# Altium footprint library altera-cyclone-II.PCBLIB: 7 footprints (part 1 of 2)
Each footprint in its own frame and in the unit in brackets; x right, y up, seen from the top. Pads: shape width x height; smd on the part's side, far side on the other; paste and mask are expansions set on the pad; w line width, h text height; cw(c..) or ccw(c..) is an arc to the next point about the centre after c.
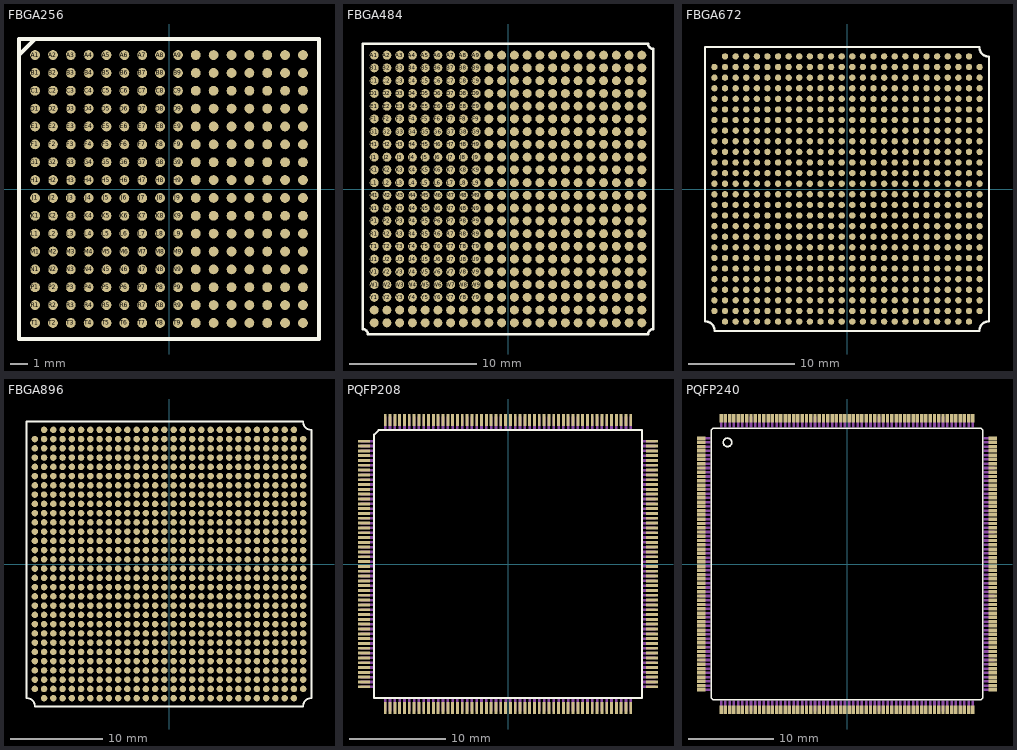
[diagram p0: the footprints below, top view; thin cyan lines are the x and y axes]

## FBGA256 [mm]
pads (256):
  rrect100% 0.55x0.55 smd: A1(-7.5,7.5) A2(-6.5,7.5) A3(-5.5,7.5) A4(-4.5,7.5) A5(-3.5,7.5) A6(-2.5,7.5) A7(-1.5,7.5) A8(-0.5,7.5) A9(0.5,7.5) A10(1.5,7.5) A11(2.5,7.5) A12(3.5,7.5) A13(4.5,7.5) A14(5.5,7.5) A15(6.5,7.5) A16(7.5,7.5) B1(-7.5,6.5) B2(-6.5,6.5) B3(-5.5,6.5) B4(-4.5,6.5) B5(-3.5,6.5) B6(-2.5,6.5) B7(-1.5,6.5) B8(-0.5,6.5) B9(0.5,6.5) B10(1.5,6.5) B11(2.5,6.5) B12(3.5,6.5) B13(4.5,6.5) B14(5.5,6.5) B15(6.5,6.5) B16(7.5,6.5) C1(-7.5,5.5) C2(-6.5,5.5) C3(-5.5,5.5) C4(-4.5,5.5) C5(-3.5,5.5) C6(-2.5,5.5) C7(-1.5,5.5) C8(-0.5,5.5) C9(0.5,5.5) C10(1.5,5.5) C11(2.5,5.5) C12(3.5,5.5) C13(4.5,5.5) C14(5.5,5.5) C15(6.5,5.5) C16(7.5,5.5) D1(-7.5,4.5) D2(-6.5,4.5) D3(-5.5,4.5) D4(-4.5,4.5) D5(-3.5,4.5) D6(-2.5,4.5) D7(-1.5,4.5) D8(-0.5,4.5) D9(0.5,4.5) D10(1.5,4.5) D11(2.5,4.5) D12(3.5,4.5) D13(4.5,4.5) D14(5.5,4.5) D15(6.5,4.5) D16(7.5,4.5) E1(-7.5,3.5) E2(-6.5,3.5) E3(-5.5,3.5) E4(-4.5,3.5) E5(-3.5,3.5) E6(-2.5,3.5) E7(-1.5,3.5) E8(-0.5,3.5) E9(0.5,3.5) E10(1.5,3.5) E11(2.5,3.5) E12(3.5,3.5) E13(4.5,3.5) E14(5.5,3.5) E15(6.5,3.5) E16(7.5,3.5) F1(-7.5,2.5) F2(-6.5,2.5) F3(-5.5,2.5) F4(-4.5,2.5) F5(-3.5,2.5) F6(-2.5,2.5) F7(-1.5,2.5) F8(-0.5,2.5) F9(0.5,2.5) F10(1.5,2.5) F11(2.5,2.5) F12(3.5,2.5) F13(4.5,2.5) F14(5.5,2.5) F15(6.5,2.5) F16(7.5,2.5) G1(-7.5,1.5) G2(-6.5,1.5) G3(-5.5,1.5) G4(-4.5,1.5) G5(-3.5,1.5) G6(-2.5,1.5) G7(-1.5,1.5) G8(-0.5,1.5) G9(0.5,1.5) G10(1.5,1.5) G11(2.5,1.5) G12(3.5,1.5) G13(4.5,1.5) G14(5.5,1.5) G15(6.5,1.5) G16(7.5,1.5) H1(-7.5,0.5) H2(-6.5,0.5) H3(-5.5,0.5) H4(-4.5,0.5) H5(-3.5,0.5) H6(-2.5,0.5) H7(-1.5,0.5) H8(-0.5,0.5) H9(0.5,0.5) H10(1.5,0.5) H11(2.5,0.5) H12(3.5,0.5) H13(4.5,0.5) H14(5.5,0.5) H15(6.5,0.5) H16(7.5,0.5) J1(-7.5,-0.5) J2(-6.5,-0.5) J3(-5.5,-0.5) J4(-4.5,-0.5) J5(-3.5,-0.5) J6(-2.5,-0.5) J7(-1.5,-0.5) J8(-0.5,-0.5) J9(0.5,-0.5) J10(1.5,-0.5) J11(2.5,-0.5) J12(3.5,-0.5) J13(4.5,-0.5) J14(5.5,-0.5) J15(6.5,-0.5) J16(7.5,-0.5) K1(-7.5,-1.5) K2(-6.5,-1.5) K3(-5.5,-1.5) K4(-4.5,-1.5) K5(-3.5,-1.5) K6(-2.5,-1.5) K7(-1.5,-1.5) K8(-0.5,-1.5) K9(0.5,-1.5) K10(1.5,-1.5) K11(2.5,-1.5) K12(3.5,-1.5) K13(4.5,-1.5) K14(5.5,-1.5) K15(6.5,-1.5) K16(7.5,-1.5) L1(-7.5,-2.5) L2(-6.5,-2.5) L3(-5.5,-2.5) L4(-4.5,-2.5) L5(-3.5,-2.5) L6(-2.5,-2.5) L7(-1.5,-2.5) L8(-0.5,-2.5) L9(0.5,-2.5) L10(1.5,-2.5) L11(2.5,-2.5) L12(3.5,-2.5) L13(4.5,-2.5) L14(5.5,-2.5) L15(6.5,-2.5) L16(7.5,-2.5) M1(-7.5,-3.5) M2(-6.5,-3.5) M3(-5.5,-3.5) M4(-4.5,-3.5) M5(-3.5,-3.5) M6(-2.5,-3.5) M7(-1.5,-3.5) M8(-0.5,-3.5) M9(0.5,-3.5) M10(1.5,-3.5) M11(2.5,-3.5) M12(3.5,-3.5) M13(4.5,-3.5) M14(5.5,-3.5) M15(6.5,-3.5) M16(7.5,-3.5) N1(-7.5,-4.5) N2(-6.5,-4.5) N3(-5.5,-4.5) N4(-4.5,-4.5) N5(-3.5,-4.5) N6(-2.5,-4.5) N7(-1.5,-4.5) N8(-0.5,-4.5) N9(0.5,-4.5) N10(1.5,-4.5) N11(2.5,-4.5) N12(3.5,-4.5) N13(4.5,-4.5) N14(5.5,-4.5) N15(6.5,-4.5) N16(7.5,-4.5) P1(-7.5,-5.5) P2(-6.5,-5.5) P3(-5.5,-5.5) P4(-4.5,-5.5) P5(-3.5,-5.5) P6(-2.5,-5.5) P7(-1.5,-5.5) P8(-0.5,-5.5) P9(0.5,-5.5) P10(1.5,-5.5) P11(2.5,-5.5) P12(3.5,-5.5) P13(4.5,-5.5) P14(5.5,-5.5) P15(6.5,-5.5) P16(7.5,-5.5) R1(-7.5,-6.5) R2(-6.5,-6.5) R3(-5.5,-6.5) R4(-4.5,-6.5) R5(-3.5,-6.5) R6(-2.5,-6.5) R7(-1.5,-6.5) R8(-0.5,-6.5) R9(0.5,-6.5) R10(1.5,-6.5) R11(2.5,-6.5) R12(3.5,-6.5) R13(4.5,-6.5) R14(5.5,-6.5) R15(6.5,-6.5) R16(7.5,-6.5) T1(-7.5,-7.5) T2(-6.5,-7.5) T3(-5.5,-7.5) T4(-4.5,-7.5) T5(-3.5,-7.5) T6(-2.5,-7.5) T7(-1.5,-7.5) T8(-0.5,-7.5) T9(0.5,-7.5) T10(1.5,-7.5) T11(2.5,-7.5) T12(3.5,-7.5) T13(4.5,-7.5) T14(5.5,-7.5) T15(6.5,-7.5) T16(7.5,-7.5)
Top Overlay:
  lines w0.203: -8.399,7.5 -7.5,8.399 ; -8.399,-8.399 8.399,-8.399 8.399,8.399 -8.399,8.399 -8.399,-8.399
Top Solder:
  drawing of 256 lines, arcs and shapes, not listed

## FBGA484 [mm]
pads (484):
  rrect100% 0.7x0.7 smd: A1(-10.5,10.5) A2(-9.5,10.5) A3(-8.5,10.5) A4(-7.5,10.5) A5(-6.5,10.5) A6(-5.5,10.5) A7(-4.5,10.5) A8(-3.5,10.5) A9(-2.5,10.5) A10(-1.5,10.5) A11(-0.5,10.5) A12(0.5,10.5) A13(1.5,10.5) A14(2.5,10.5) A15(3.5,10.5) A16(4.5,10.5) A17(5.5,10.5) A18(6.5,10.5) A19(7.5,10.5) A20(8.5,10.5) A21(9.5,10.5) A22(10.5,10.5) AA1(-10.5,-9.5) AA2(-9.5,-9.5) AA3(-8.5,-9.5) AA4(-7.5,-9.5) AA5(-6.5,-9.5) AA6(-5.5,-9.5) AA7(-4.5,-9.5) AA8(-3.5,-9.5) AA9(-2.5,-9.5) AA10(-1.5,-9.5) AA11(-0.5,-9.5) AA12(0.5,-9.5) AA13(1.5,-9.5) AA14(2.5,-9.5) AA15(3.5,-9.5) AA16(4.5,-9.5) AA17(5.5,-9.5) AA18(6.5,-9.5) AA19(7.5,-9.5) AA20(8.5,-9.5) AA21(9.5,-9.5) AA22(10.5,-9.5) AB1(-10.5,-10.5) AB2(-9.5,-10.5) AB3(-8.5,-10.5) AB4(-7.5,-10.5) AB5(-6.5,-10.5) AB6(-5.5,-10.5) AB7(-4.5,-10.5) AB8(-3.5,-10.5) AB9(-2.5,-10.5) AB10(-1.5,-10.5) AB11(-0.5,-10.5) AB12(0.5,-10.5) AB13(1.5,-10.5) AB14(2.5,-10.5) AB15(3.5,-10.5) AB16(4.5,-10.5) AB17(5.5,-10.5) AB18(6.5,-10.5) AB19(7.5,-10.5) AB20(8.5,-10.5) AB21(9.5,-10.5) AB22(10.5,-10.5) B1(-10.5,9.5) B2(-9.5,9.5) B3(-8.5,9.5) B4(-7.5,9.5) B5(-6.5,9.5) B6(-5.5,9.5) B7(-4.5,9.5) B8(-3.5,9.5) B9(-2.5,9.5) B10(-1.5,9.5) B11(-0.5,9.5) B12(0.5,9.5) B13(1.5,9.5) B14(2.5,9.5) B15(3.5,9.5) B16(4.5,9.5) B17(5.5,9.5) B18(6.5,9.5) B19(7.5,9.5) B20(8.5,9.5) B21(9.5,9.5) B22(10.5,9.5) C1(-10.5,8.5) C2(-9.5,8.5) C3(-8.5,8.5) C4(-7.5,8.5) C5(-6.5,8.5) C6(-5.5,8.5) C7(-4.5,8.5) C8(-3.5,8.5) C9(-2.5,8.5) C10(-1.5,8.5) C11(-0.5,8.5) C12(0.5,8.5) C13(1.5,8.5) C14(2.5,8.5) C15(3.5,8.5) C16(4.5,8.5) C17(5.5,8.5) C18(6.5,8.5) C19(7.5,8.5) C20(8.5,8.5) C21(9.5,8.5) C22(10.5,8.5) D1(-10.5,7.5) D2(-9.5,7.5) D3(-8.5,7.5) D4(-7.5,7.5) D5(-6.5,7.5) D6(-5.5,7.5) D7(-4.5,7.5) D8(-3.5,7.5) D9(-2.5,7.5) D10(-1.5,7.5) D11(-0.5,7.5) D12(0.5,7.5) D13(1.5,7.5) D14(2.5,7.5) D15(3.5,7.5) D16(4.5,7.5) D17(5.5,7.5) D18(6.5,7.5) D19(7.5,7.5) D20(8.5,7.5) D21(9.5,7.5) D22(10.5,7.5) E1(-10.5,6.5) E2(-9.5,6.5) E3(-8.5,6.5) E4(-7.5,6.5) E5(-6.5,6.5) E6(-5.5,6.5) E7(-4.5,6.5) E8(-3.5,6.5) E9(-2.5,6.5) E10(-1.5,6.5) E11(-0.5,6.5) E12(0.5,6.5) E13(1.5,6.5) E14(2.5,6.5) E15(3.5,6.5) E16(4.5,6.5) E17(5.5,6.5) E18(6.5,6.5) E19(7.5,6.5) E20(8.5,6.5) E21(9.5,6.5) E22(10.5,6.5) F1(-10.5,5.5) F2(-9.5,5.5) F3(-8.5,5.5) F4(-7.5,5.5) F5(-6.5,5.5) F6(-5.5,5.5) F7(-4.5,5.5) F8(-3.5,5.5) F9(-2.5,5.5) F10(-1.5,5.5) F11(-0.5,5.5) F12(0.5,5.5) F13(1.5,5.5) F14(2.5,5.5) F15(3.5,5.5) F16(4.5,5.5) F17(5.5,5.5) F18(6.5,5.5) F19(7.5,5.5) F20(8.5,5.5) F21(9.5,5.5) F22(10.5,5.5) G1(-10.5,4.5) G2(-9.5,4.5) G3(-8.5,4.5) G4(-7.5,4.5) G5(-6.5,4.5) G6(-5.5,4.5) G7(-4.5,4.5) G8(-3.5,4.5) G9(-2.5,4.5) G10(-1.5,4.5) G11(-0.5,4.5) G12(0.5,4.5) G13(1.5,4.5) G14(2.5,4.5) G15(3.5,4.5) G16(4.5,4.5) G17(5.5,4.5) G18(6.5,4.5) G19(7.5,4.5) G20(8.5,4.5) G21(9.5,4.5) G22(10.5,4.5) H1(-10.5,3.5) H2(-9.5,3.5) H3(-8.5,3.5) H4(-7.5,3.5) H5(-6.5,3.5) H6(-5.5,3.5) H7(-4.5,3.5) H8(-3.5,3.5) H9(-2.5,3.5) H10(-1.5,3.5) H11(-0.5,3.5) H12(0.5,3.5) H13(1.5,3.5) H14(2.5,3.5) H15(3.5,3.5) H16(4.5,3.5) H17(5.5,3.5) H18(6.5,3.5) H19(7.5,3.5) H20(8.5,3.5) H21(9.5,3.5) H22(10.5,3.5) J1(-10.5,2.5) J2(-9.5,2.5) J3(-8.5,2.5) J4(-7.5,2.5) J5(-6.5,2.5) J6(-5.5,2.5) J7(-4.5,2.5) J8(-3.5,2.5) J9(-2.5,2.5) J10(-1.5,2.5) J11(-0.5,2.5) J12(0.5,2.5) J13(1.5,2.5) J14(2.5,2.5) J15(3.5,2.5) J16(4.5,2.5) J17(5.5,2.5) J18(6.5,2.5) J19(7.5,2.5) J20(8.5,2.5) J21(9.5,2.5) J22(10.5,2.5) K1(-10.5,1.5) K2(-9.5,1.5) K3(-8.5,1.5) K4(-7.5,1.5) K5(-6.5,1.5) K6(-5.5,1.5) K7(-4.5,1.5) K8(-3.5,1.5) K9(-2.5,1.5) K10(-1.5,1.5) K11(-0.5,1.5) K12(0.5,1.5) K13(1.5,1.5) K14(2.5,1.5) K15(3.5,1.5) K16(4.5,1.5) K17(5.5,1.5) K18(6.5,1.5) K19(7.5,1.5) K20(8.5,1.5) K21(9.5,1.5) K22(10.5,1.5) L1(-10.5,0.5) L2(-9.5,0.5) L3(-8.5,0.5) L4(-7.5,0.5) L5(-6.5,0.5) L6(-5.5,0.5) L7(-4.5,0.5) L8(-3.5,0.5) L9(-2.5,0.5) L10(-1.5,0.5) L11(-0.5,0.5) L12(0.5,0.5) L13(1.5,0.5) L14(2.5,0.5) L15(3.5,0.5) L16(4.5,0.5) L17(5.5,0.5) L18(6.5,0.5) L19(7.5,0.5) L20(8.5,0.5) L21(9.5,0.5) L22(10.5,0.5) M1(-10.5,-0.5) M2(-9.5,-0.5) M3(-8.5,-0.5) M4(-7.5,-0.5) M5(-6.5,-0.5) M6(-5.5,-0.5) M7(-4.5,-0.5) M8(-3.5,-0.5) M9(-2.5,-0.5) M10(-1.5,-0.5) M11(-0.5,-0.5) M12(0.5,-0.5) M13(1.5,-0.5) M14(2.5,-0.5) M15(3.5,-0.5) M16(4.5,-0.5) M17(5.5,-0.5) M18(6.5,-0.5) M19(7.5,-0.5) M20(8.5,-0.5) M21(9.5,-0.5) M22(10.5,-0.5) N1(-10.5,-1.5) N2(-9.5,-1.5) N3(-8.5,-1.5) N4(-7.5,-1.5) N5(-6.5,-1.5) N6(-5.5,-1.5) N7(-4.5,-1.5) N8(-3.5,-1.5) N9(-2.5,-1.5) N10(-1.5,-1.5) N11(-0.5,-1.5) N12(0.5,-1.5) N13(1.5,-1.5) N14(2.5,-1.5) N15(3.5,-1.5) N16(4.5,-1.5) N17(5.5,-1.5) N18(6.5,-1.5) N19(7.5,-1.5) N20(8.5,-1.5) N21(9.5,-1.5) N22(10.5,-1.5) P1(-10.5,-2.5) P2(-9.5,-2.5) P3(-8.5,-2.5) P4(-7.5,-2.5) P5(-6.5,-2.5) P6(-5.5,-2.5) P7(-4.5,-2.5) P8(-3.5,-2.5) P9(-2.5,-2.5) P10(-1.5,-2.5) P11(-0.5,-2.5) P12(0.5,-2.5) P13(1.5,-2.5) P14(2.5,-2.5) P15(3.5,-2.5) P16(4.5,-2.5) P17(5.5,-2.5) P18(6.5,-2.5) P19(7.5,-2.5) P20(8.5,-2.5) P21(9.5,-2.5) P22(10.5,-2.5) R1(-10.5,-3.5) R2(-9.5,-3.5) R3(-8.5,-3.5) R4(-7.5,-3.5) R5(-6.5,-3.5) R6(-5.5,-3.5) R7(-4.5,-3.5) R8(-3.5,-3.5) R9(-2.5,-3.5) R10(-1.5,-3.5) R11(-0.5,-3.5) R12(0.5,-3.5) R13(1.5,-3.5) R14(2.5,-3.5) R15(3.5,-3.5) R16(4.5,-3.5) R17(5.5,-3.5) R18(6.5,-3.5) R19(7.5,-3.5) R20(8.5,-3.5) R21(9.5,-3.5) R22(10.5,-3.5) T1(-10.5,-4.5) T2(-9.5,-4.5) T3(-8.5,-4.5) T4(-7.5,-4.5) T5(-6.5,-4.5) T6(-5.5,-4.5) T7(-4.5,-4.5) T8(-3.5,-4.5) T9(-2.5,-4.5) T10(-1.5,-4.5) T11(-0.5,-4.5) T12(0.5,-4.5) T13(1.5,-4.5) T14(2.5,-4.5) T15(3.5,-4.5) T16(4.5,-4.5) T17(5.5,-4.5) T18(6.5,-4.5) T19(7.5,-4.5) T20(8.5,-4.5) T21(9.5,-4.5) T22(10.5,-4.5) U1(-10.5,-5.5) U2(-9.5,-5.5) U3(-8.5,-5.5) U4(-7.5,-5.5) U5(-6.5,-5.5) U6(-5.5,-5.5) U7(-4.5,-5.5) U8(-3.5,-5.5) U9(-2.5,-5.5) U10(-1.5,-5.5) U11(-0.5,-5.5) U12(0.5,-5.5) U13(1.5,-5.5) U14(2.5,-5.5) U15(3.5,-5.5) U16(4.5,-5.5) U17(5.5,-5.5) U18(6.5,-5.5) U19(7.5,-5.5) U20(8.5,-5.5) U21(9.5,-5.5) U22(10.5,-5.5) V1(-10.5,-6.5) V2(-9.5,-6.5) V3(-8.5,-6.5) V4(-7.5,-6.5) V5(-6.5,-6.5) V6(-5.5,-6.5) V7(-4.5,-6.5) V8(-3.5,-6.5) V9(-2.5,-6.5) V10(-1.5,-6.5) V11(-0.5,-6.5) V12(0.5,-6.5) V13(1.5,-6.5) V14(2.5,-6.5) V15(3.5,-6.5) V16(4.5,-6.5) V17(5.5,-6.5) V18(6.5,-6.5) V19(7.5,-6.5) V20(8.5,-6.5) V21(9.5,-6.5) V22(10.5,-6.5) W1(-10.5,-7.5) W2(-9.5,-7.5) W3(-8.5,-7.5) W4(-7.5,-7.5) W5(-6.5,-7.5) W6(-5.5,-7.5) W7(-4.5,-7.5) W8(-3.5,-7.5) W9(-2.5,-7.5) W10(-1.5,-7.5) W11(-0.5,-7.5) W12(0.5,-7.5) W13(1.5,-7.5) W14(2.5,-7.5) W15(3.5,-7.5) W16(4.5,-7.5) W17(5.5,-7.5) W18(6.5,-7.5) W19(7.5,-7.5) W20(8.5,-7.5) W21(9.5,-7.5) W22(10.5,-7.5) Y1(-10.5,-8.5) Y2(-9.5,-8.5) Y3(-8.5,-8.5) Y4(-7.5,-8.5) Y5(-6.5,-8.5) Y6(-5.5,-8.5) Y7(-4.5,-8.5) Y8(-3.5,-8.5) Y9(-2.5,-8.5) Y10(-1.5,-8.5) Y11(-0.5,-8.5) Y12(0.5,-8.5) Y13(1.5,-8.5) Y14(2.5,-8.5) Y15(3.5,-8.5) Y16(4.5,-8.5) Y17(5.5,-8.5) Y18(6.5,-8.5) Y19(7.5,-8.5) Y20(8.5,-8.5) Y21(9.5,-8.5) Y22(10.5,-8.5)
Top Overlay:
  lines w0.203: -11.399,-11 -11.399,11.399 11,11.399 ccw(c11.384,11.384) 11.399,11 11.399,-11 ccw(c11.384,-11.384) 11,-11.399 -11,-11.399 ccw(c-11.384,-11.384) -11.399,-11
Top Solder:
  drawing of 484 lines, arcs and shapes, not listed

## FBGA672 [mm]
pads (672):
  rrect100% 0.6x0.6 smd: A2(-11.5,12.5) A3(-10.5,12.5) A4(-9.5,12.5) A5(-8.5,12.5) A6(-7.5,12.5) A7(-6.5,12.5) A8(-5.5,12.5) A9(-4.5,12.5) A10(-3.5,12.5) A11(-2.5,12.5) A12(-1.5,12.5) A13(-0.5,12.5) A14(0.5,12.5) A15(1.5,12.5) A16(2.5,12.5) A17(3.5,12.5) A18(4.5,12.5) A19(5.5,12.5) A20(6.5,12.5) A21(7.5,12.5) A22(8.5,12.5) A23(9.5,12.5) A24(10.5,12.5) A25(11.5,12.5) AA1(-12.5,-7.5) AA2(-11.5,-7.5) AA3(-10.5,-7.5) AA4(-9.5,-7.5) AA5(-8.5,-7.5) AA6(-7.5,-7.5) AA7(-6.5,-7.5) AA8(-5.5,-7.5) AA9(-4.5,-7.5) AA10(-3.5,-7.5) AA11(-2.5,-7.5) AA12(-1.5,-7.5) AA13(-0.5,-7.5) AA14(0.5,-7.5) AA15(1.5,-7.5) AA16(2.5,-7.5) AA17(3.5,-7.5) AA18(4.5,-7.5) AA19(5.5,-7.5) AA20(6.5,-7.5) AA21(7.5,-7.5) AA22(8.5,-7.5) AA23(9.5,-7.5) AA24(10.5,-7.5) AA25(11.5,-7.5) AA26(12.5,-7.5) AB1(-12.5,-8.5) AB2(-11.5,-8.5) AB3(-10.5,-8.5) AB4(-9.5,-8.5) AB5(-8.5,-8.5) AB6(-7.5,-8.5) AB7(-6.5,-8.5) AB8(-5.5,-8.5) AB9(-4.5,-8.5) AB10(-3.5,-8.5) AB11(-2.5,-8.5) AB12(-1.5,-8.5) AB13(-0.5,-8.5) AB14(0.5,-8.5) AB15(1.5,-8.5) AB16(2.5,-8.5) AB17(3.5,-8.5) AB18(4.5,-8.5) AB19(5.5,-8.5) AB20(6.5,-8.5) AB21(7.5,-8.5) AB22(8.5,-8.5) AB23(9.5,-8.5) AB24(10.5,-8.5) AB25(11.5,-8.5) AB26(12.5,-8.5) AC1(-12.5,-9.5) AC2(-11.5,-9.5) AC3(-10.5,-9.5) AC4(-9.5,-9.5) AC5(-8.5,-9.5) AC6(-7.5,-9.5) AC7(-6.5,-9.5) AC8(-5.5,-9.5) AC9(-4.5,-9.5) AC10(-3.5,-9.5) AC11(-2.5,-9.5) AC12(-1.5,-9.5) AC13(-0.5,-9.5) AC14(0.5,-9.5) AC15(1.5,-9.5) AC16(2.5,-9.5) AC17(3.5,-9.5) AC18(4.5,-9.5) AC19(5.5,-9.5) AC20(6.5,-9.5) AC21(7.5,-9.5) AC22(8.5,-9.5) AC23(9.5,-9.5) AC24(10.5,-9.5) AC25(11.5,-9.5) AC26(12.5,-9.5) AD1(-12.5,-10.5) AD2(-11.5,-10.5) AD3(-10.5,-10.5) AD4(-9.5,-10.5) AD5(-8.5,-10.5) AD6(-7.5,-10.5) AD7(-6.5,-10.5) AD8(-5.5,-10.5) AD9(-4.5,-10.5) AD10(-3.5,-10.5) AD11(-2.5,-10.5) AD12(-1.5,-10.5) AD13(-0.5,-10.5) AD14(0.5,-10.5) AD15(1.5,-10.5) AD16(2.5,-10.5) AD17(3.5,-10.5) AD18(4.5,-10.5) AD19(5.5,-10.5) AD20(6.5,-10.5) AD21(7.5,-10.5) AD22(8.5,-10.5) AD23(9.5,-10.5) AD24(10.5,-10.5) AD25(11.5,-10.5) AD26(12.5,-10.5) AE1(-12.5,-11.5) AE2(-11.5,-11.5) AE3(-10.5,-11.5) AE4(-9.5,-11.5) AE5(-8.5,-11.5) AE6(-7.5,-11.5) AE7(-6.5,-11.5) AE8(-5.5,-11.5) AE9(-4.5,-11.5) AE10(-3.5,-11.5) AE11(-2.5,-11.5) AE12(-1.5,-11.5) AE13(-0.5,-11.5) AE14(0.5,-11.5) AE15(1.5,-11.5) AE16(2.5,-11.5) AE17(3.5,-11.5) AE18(4.5,-11.5) AE19(5.5,-11.5) AE20(6.5,-11.5) AE21(7.5,-11.5) AE22(8.5,-11.5) AE23(9.5,-11.5) AE24(10.5,-11.5) AE25(11.5,-11.5) AE26(12.5,-11.5) AF2(-11.5,-12.5) AF3(-10.5,-12.5) AF4(-9.5,-12.5) AF5(-8.5,-12.5) AF6(-7.5,-12.5) AF7(-6.5,-12.5) AF8(-5.5,-12.5) AF9(-4.5,-12.5) AF10(-3.5,-12.5) AF11(-2.5,-12.5) AF12(-1.5,-12.5) AF13(-0.5,-12.5) AF14(0.5,-12.5) AF15(1.5,-12.5) AF16(2.5,-12.5) AF17(3.5,-12.5) AF18(4.5,-12.5) AF19(5.5,-12.5) AF20(6.5,-12.5) AF21(7.5,-12.5) AF22(8.5,-12.5) AF23(9.5,-12.5) AF24(10.5,-12.5) AF25(11.5,-12.5) B1(-12.5,11.5) B2(-11.5,11.5) B3(-10.5,11.5) B4(-9.5,11.5) B5(-8.5,11.5) B6(-7.5,11.5) B7(-6.5,11.5) B8(-5.5,11.5) B9(-4.5,11.5) B10(-3.5,11.5) B11(-2.5,11.5) B12(-1.5,11.5) B13(-0.5,11.5) B14(0.5,11.5) B15(1.5,11.5) B16(2.5,11.5) B17(3.5,11.5) B18(4.5,11.5) B19(5.5,11.5) B20(6.5,11.5) B21(7.5,11.5) B22(8.5,11.5) B23(9.5,11.5) B24(10.5,11.5) B25(11.5,11.5) B26(12.5,11.5) C1(-12.5,10.5) C2(-11.5,10.5) C3(-10.5,10.5) C4(-9.5,10.5) C5(-8.5,10.5) C6(-7.5,10.5) C7(-6.5,10.5) C8(-5.5,10.5) C9(-4.5,10.5) C10(-3.5,10.5) C11(-2.5,10.5) C12(-1.5,10.5) C13(-0.5,10.5) C14(0.5,10.5) C15(1.5,10.5) C16(2.5,10.5) C17(3.5,10.5) C18(4.5,10.5) C19(5.5,10.5) C20(6.5,10.5) C21(7.5,10.5) C22(8.5,10.5) C23(9.5,10.5) C24(10.5,10.5) C25(11.5,10.5) C26(12.5,10.5) D1(-12.5,9.5) D2(-11.5,9.5) D3(-10.5,9.5) D4(-9.5,9.5) D5(-8.5,9.5) D6(-7.5,9.5) D7(-6.5,9.5) D8(-5.5,9.5) D9(-4.5,9.5) D10(-3.5,9.5) D11(-2.5,9.5) D12(-1.5,9.5) D13(-0.5,9.5) D14(0.5,9.5) D15(1.5,9.5) D16(2.5,9.5) D17(3.5,9.5) D18(4.5,9.5) D19(5.5,9.5) D20(6.5,9.5) D21(7.5,9.5) D22(8.5,9.5) D23(9.5,9.5) D24(10.5,9.5) D25(11.5,9.5) D26(12.5,9.5) E1(-12.5,8.5) E2(-11.5,8.5) E3(-10.5,8.5) E4(-9.5,8.5) E5(-8.5,8.5) E6(-7.5,8.5) E7(-6.5,8.5) E8(-5.5,8.5) E9(-4.5,8.5) E10(-3.5,8.5) E11(-2.5,8.5) E12(-1.5,8.5) E13(-0.5,8.5) E14(0.5,8.5) E15(1.5,8.5) E16(2.5,8.5) E17(3.5,8.5) E18(4.5,8.5) E19(5.5,8.5) E20(6.5,8.5) E21(7.5,8.5) E22(8.5,8.5) E23(9.5,8.5) E24(10.5,8.5) E25(11.5,8.5) E26(12.5,8.5) F1(-12.5,7.5) F2(-11.5,7.5) F3(-10.5,7.5) F4(-9.5,7.5) F5(-8.5,7.5) F6(-7.5,7.5) F7(-6.5,7.5) F8(-5.5,7.5) F9(-4.5,7.5) F10(-3.5,7.5) F11(-2.5,7.5) F12(-1.5,7.5) F13(-0.5,7.5) F14(0.5,7.5) F15(1.5,7.5) F16(2.5,7.5) F17(3.5,7.5) F18(4.5,7.5) F19(5.5,7.5) F20(6.5,7.5) F21(7.5,7.5) F22(8.5,7.5) F23(9.5,7.5) F24(10.5,7.5) F25(11.5,7.5) F26(12.5,7.5) G1(-12.5,6.5) G2(-11.5,6.5) G3(-10.5,6.5) G4(-9.5,6.5) G5(-8.5,6.5) G6(-7.5,6.5) G7(-6.5,6.5) G8(-5.5,6.5) G9(-4.5,6.5) G10(-3.5,6.5) G11(-2.5,6.5) G12(-1.5,6.5) G13(-0.5,6.5) G14(0.5,6.5) G15(1.5,6.5) G16(2.5,6.5) G17(3.5,6.5) G18(4.5,6.5) G19(5.5,6.5) G20(6.5,6.5) G21(7.5,6.5) G22(8.5,6.5) G23(9.5,6.5) G24(10.5,6.5) G25(11.5,6.5) G26(12.5,6.5) H1(-12.5,5.5) H2(-11.5,5.5) H3(-10.5,5.5) H4(-9.5,5.5) H5(-8.5,5.5) H6(-7.5,5.5) H7(-6.5,5.5) H8(-5.5,5.5) H9(-4.5,5.5) H10(-3.5,5.5) H11(-2.5,5.5) H12(-1.5,5.5) H13(-0.5,5.5) H14(0.5,5.5) H15(1.5,5.5) H16(2.5,5.5) H17(3.5,5.5) H18(4.5,5.5) H19(5.5,5.5) H20(6.5,5.5) H21(7.5,5.5) H22(8.5,5.5) H23(9.5,5.5) H24(10.5,5.5) H25(11.5,5.5) H26(12.5,5.5) J1(-12.5,4.5) J2(-11.5,4.5) J3(-10.5,4.5) J4(-9.5,4.5) J5(-8.5,4.5) J6(-7.5,4.5) J7(-6.5,4.5) J8(-5.5,4.5) J9(-4.5,4.5) J10(-3.5,4.5) J11(-2.5,4.5) J12(-1.5,4.5) J13(-0.5,4.5) J14(0.5,4.5) J15(1.5,4.5) J16(2.5,4.5) J17(3.5,4.5) J18(4.5,4.5) J19(5.5,4.5) J20(6.5,4.5) J21(7.5,4.5) J22(8.5,4.5) J23(9.5,4.5) J24(10.5,4.5) J25(11.5,4.5) J26(12.5,4.5) K1(-12.5,3.5) K2(-11.5,3.5) K3(-10.5,3.5) K4(-9.5,3.5) K5(-8.5,3.5) K6(-7.5,3.5) K7(-6.5,3.5) K8(-5.5,3.5) K9(-4.5,3.5) K10(-3.5,3.5) K11(-2.5,3.5) K12(-1.5,3.5) K13(-0.5,3.5) K14(0.5,3.5) K15(1.5,3.5) K16(2.5,3.5) K17(3.5,3.5) K18(4.5,3.5) K19(5.5,3.5) K20(6.5,3.5) K21(7.5,3.5) K22(8.5,3.5) K23(9.5,3.5) K24(10.5,3.5) K25(11.5,3.5) K26(12.5,3.5) L1(-12.5,2.5) L2(-11.5,2.5) L3(-10.5,2.5) L4(-9.5,2.5) L5(-8.5,2.5) L6(-7.5,2.5) L7(-6.5,2.5) L8(-5.5,2.5) L9(-4.5,2.5) L10(-3.5,2.5) L11(-2.5,2.5) L12(-1.5,2.5) L13(-0.5,2.5) L14(0.5,2.5) L15(1.5,2.5) L16(2.5,2.5) L17(3.5,2.5) L18(4.5,2.5) L19(5.5,2.5) L20(6.5,2.5) L21(7.5,2.5) L22(8.5,2.5) L23(9.5,2.5) L24(10.5,2.5) L25(11.5,2.5) L26(12.5,2.5) M1(-12.5,1.5) M2(-11.5,1.5) M3(-10.5,1.5) M4(-9.5,1.5) M5(-8.5,1.5) M6(-7.5,1.5) M7(-6.5,1.5) M8(-5.5,1.5) M9(-4.5,1.5) M10(-3.5,1.5) M11(-2.5,1.5) M12(-1.5,1.5) M13(-0.5,1.5) M14(0.5,1.5) M15(1.5,1.5) M16(2.5,1.5) M17(3.5,1.5) M18(4.5,1.5) M19(5.5,1.5) M20(6.5,1.5) M21(7.5,1.5) M22(8.5,1.5) M23(9.5,1.5) M24(10.5,1.5) M25(11.5,1.5) M26(12.5,1.5) N1(-12.5,0.5) N2(-11.5,0.5) N3(-10.5,0.5) N4(-9.5,0.5) N5(-8.5,0.5) N6(-7.5,0.5) N7(-6.5,0.5) N8(-5.5,0.5) N9(-4.5,0.5) N10(-3.5,0.5) N11(-2.5,0.5) N12(-1.5,0.5) N13(-0.5,0.5) N14(0.5,0.5) N15(1.5,0.5) N16(2.5,0.5) N17(3.5,0.5) N18(4.5,0.5) N19(5.5,0.5) N20(6.5,0.5) N21(7.5,0.5) N22(8.5,0.5) N23(9.5,0.5) N24(10.5,0.5) N25(11.5,0.5) N26(12.5,0.5) P1(-12.5,-0.5) P2(-11.5,-0.5) P3(-10.5,-0.5) P4(-9.5,-0.5) P5(-8.5,-0.5) P6(-7.5,-0.5) P7(-6.5,-0.5) P8(-5.5,-0.5) P9(-4.5,-0.5) P10(-3.5,-0.5) P11(-2.5,-0.5) P12(-1.5,-0.5) P13(-0.5,-0.5) P14(0.5,-0.5) P15(1.5,-0.5) P16(2.5,-0.5) P17(3.5,-0.5) P18(4.5,-0.5) P19(5.5,-0.5) P20(6.5,-0.5) P21(7.5,-0.5) P22(8.5,-0.5) P23(9.5,-0.5) P24(10.5,-0.5) P25(11.5,-0.5) P26(12.5,-0.5) R1(-12.5,-1.5) R2(-11.5,-1.5) R3(-10.5,-1.5) R4(-9.5,-1.5) R5(-8.5,-1.5) R6(-7.5,-1.5) R7(-6.5,-1.5) R8(-5.5,-1.5) R9(-4.5,-1.5) R10(-3.5,-1.5) R11(-2.5,-1.5) R12(-1.5,-1.5) R13(-0.5,-1.5) R14(0.5,-1.5) R15(1.5,-1.5) R16(2.5,-1.5) R17(3.5,-1.5) R18(4.5,-1.5) R19(5.5,-1.5) R20(6.5,-1.5) R21(7.5,-1.5) R22(8.5,-1.5) R23(9.5,-1.5) R24(10.5,-1.5) R25(11.5,-1.5) R26(12.5,-1.5) T1(-12.5,-2.5) T2(-11.5,-2.5) T3(-10.5,-2.5) T4(-9.5,-2.5) T5(-8.5,-2.5) T6(-7.5,-2.5) T7(-6.5,-2.5) T8(-5.5,-2.5) T9(-4.5,-2.5) T10(-3.5,-2.5) T11(-2.5,-2.5) T12(-1.5,-2.5) T13(-0.5,-2.5) T14(0.5,-2.5) T15(1.5,-2.5) T16(2.5,-2.5) T17(3.5,-2.5) T18(4.5,-2.5) T19(5.5,-2.5) T20(6.5,-2.5) T21(7.5,-2.5) T22(8.5,-2.5) T23(9.5,-2.5) T24(10.5,-2.5) T25(11.5,-2.5) T26(12.5,-2.5) U1(-12.5,-3.5) U2(-11.5,-3.5) U3(-10.5,-3.5) U4(-9.5,-3.5) U5(-8.5,-3.5) U6(-7.5,-3.5) U7(-6.5,-3.5) U8(-5.5,-3.5) U9(-4.5,-3.5) U10(-3.5,-3.5) U11(-2.5,-3.5) U12(-1.5,-3.5) U13(-0.5,-3.5) U14(0.5,-3.5) U15(1.5,-3.5) U16(2.5,-3.5) U17(3.5,-3.5) U18(4.5,-3.5) U19(5.5,-3.5) U20(6.5,-3.5) U21(7.5,-3.5) U22(8.5,-3.5) U23(9.5,-3.5) U24(10.5,-3.5) U25(11.5,-3.5) U26(12.5,-3.5) V1(-12.5,-4.5) V2(-11.5,-4.5) V3(-10.5,-4.5) V4(-9.5,-4.5) V5(-8.5,-4.5) V6(-7.5,-4.5) V7(-6.5,-4.5) V8(-5.5,-4.5) V9(-4.5,-4.5) V10(-3.5,-4.5) V11(-2.5,-4.5) V12(-1.5,-4.5) V13(-0.5,-4.5) V14(0.5,-4.5) V15(1.5,-4.5) V16(2.5,-4.5) V17(3.5,-4.5) V18(4.5,-4.5) V19(5.5,-4.5) V20(6.5,-4.5) V21(7.5,-4.5) V22(8.5,-4.5) V23(9.5,-4.5) V24(10.5,-4.5) V25(11.5,-4.5) V26(12.5,-4.5) W1(-12.5,-5.5) W2(-11.5,-5.5) W3(-10.5,-5.5) W4(-9.5,-5.5) W5(-8.5,-5.5) W6(-7.5,-5.5) W7(-6.5,-5.5) W8(-5.5,-5.5) W9(-4.5,-5.5) W10(-3.5,-5.5) W11(-2.5,-5.5) W12(-1.5,-5.5) W13(-0.5,-5.5) W14(0.5,-5.5) W15(1.5,-5.5) W16(2.5,-5.5) W17(3.5,-5.5) W18(4.5,-5.5) W19(5.5,-5.5) W20(6.5,-5.5) W21(7.5,-5.5) W22(8.5,-5.5) W23(9.5,-5.5) W24(10.5,-5.5) W25(11.5,-5.5) W26(12.5,-5.5) Y1(-12.5,-6.5) Y2(-11.5,-6.5) Y3(-10.5,-6.5) Y4(-9.5,-6.5) Y5(-8.5,-6.5) Y6(-7.5,-6.5) Y7(-6.5,-6.5) Y8(-5.5,-6.5) Y9(-4.5,-6.5) Y10(-3.5,-6.5) Y11(-2.5,-6.5) Y12(-1.5,-6.5) Y13(-0.5,-6.5) Y14(0.5,-6.5) Y15(1.5,-6.5) Y16(2.5,-6.5) Y17(3.5,-6.5) Y18(4.5,-6.5) Y19(5.5,-6.5) Y20(6.5,-6.5) Y21(7.5,-6.5) Y22(8.5,-6.5) Y23(9.5,-6.5) Y24(10.5,-6.5) Y25(11.5,-6.5) Y26(12.5,-6.5)
Top Overlay:
  lines w0.203: -13.399,-12.5 -13.399,13.399 12.5,13.399 ccw(c13.32,13.32) 13.398,12.5 13.399,-12.5 ccw(c13.32,-13.32) 12.5,-13.398 -12.5,-13.399 ccw(c-13.32,-13.32) -13.398,-12.5
Top Solder:
  drawing of 672 lines, arcs and shapes, not listed

## FBGA896 [mil]
pads (896):
  rrect100% 27.56x27.56 smd: A2(-531.5,570.87) A3(-492.13,570.87) A4(-452.76,570.87) A5(-413.39,570.87) A6(-374.02,570.87) A7(-334.65,570.87) A8(-295.28,570.87) A9(-255.91,570.87) A10(-216.54,570.87) A11(-177.17,570.87) A12(-137.8,570.87) A13(-98.43,570.87) A14(-59.06,570.87) A15(-19.69,570.87) A16(19.69,570.87) A17(59.06,570.87) A18(98.43,570.87) A19(137.8,570.87) A20(177.17,570.87) A21(216.54,570.87) A22(255.91,570.87) A23(295.28,570.87) A24(334.65,570.87) A25(374.02,570.87) A26(413.39,570.87) A27(452.76,570.87) A28(492.13,570.87) A29(531.5,570.87) AA1(-570.87,-216.54) AA2(-531.5,-216.54) AA3(-492.13,-216.54) AA4(-452.76,-216.54) AA5(-413.39,-216.54) AA6(-374.02,-216.54) AA7(-334.65,-216.54) AA8(-295.28,-216.54) AA9(-255.91,-216.54) AA10(-216.54,-216.54) AA11(-177.17,-216.54) AA12(-137.8,-216.54) AA13(-98.43,-216.54) AA14(-59.06,-216.54) AA15(-19.69,-216.54) AA16(19.69,-216.54) AA17(59.06,-216.54) AA18(98.43,-216.54) AA19(137.8,-216.54) AA20(177.17,-216.54) AA21(216.54,-216.54) AA22(255.91,-216.54) AA23(295.28,-216.54) AA24(334.65,-216.54) AA25(374.02,-216.54) AA26(413.39,-216.54) AA27(452.76,-216.54) AA28(492.13,-216.54) AA29(531.5,-216.54) AA30(570.87,-216.54) AB1(-570.87,-255.91) AB2(-531.5,-255.91) AB3(-492.13,-255.91) AB4(-452.76,-255.91) AB5(-413.39,-255.91) AB6(-374.02,-255.91) AB7(-334.65,-255.91) AB8(-295.28,-255.91) AB9(-255.91,-255.91) AB10(-216.54,-255.91) AB11(-177.17,-255.91) AB12(-137.8,-255.91) AB13(-98.43,-255.91) AB14(-59.06,-255.91) AB15(-19.69,-255.91) AB16(19.69,-255.91) AB17(59.06,-255.91) AB18(98.43,-255.91) AB19(137.8,-255.91) AB20(177.17,-255.91) AB21(216.54,-255.91) AB22(255.91,-255.91) AB23(295.28,-255.91) AB24(334.65,-255.91) AB25(374.02,-255.91) AB26(413.39,-255.91) AB27(452.76,-255.91) AB28(492.13,-255.91) AB29(531.5,-255.91) AB30(570.87,-255.91) AC1(-570.87,-295.28) AC2(-531.5,-295.28) AC3(-492.13,-295.28) AC4(-452.76,-295.28) AC5(-413.39,-295.28) AC6(-374.02,-295.28) AC7(-334.65,-295.28) AC8(-295.28,-295.28) AC9(-255.91,-295.28) AC10(-216.54,-295.28) AC11(-177.17,-295.28) AC12(-137.8,-295.28) AC13(-98.43,-295.28) AC14(-59.06,-295.28) AC15(-19.69,-295.28) AC16(19.69,-295.28) AC17(59.06,-295.28) AC18(98.43,-295.28) AC19(137.8,-295.28) AC20(177.17,-295.28) AC21(216.54,-295.28) AC22(255.91,-295.28) AC23(295.28,-295.28) AC24(334.65,-295.28) AC25(374.02,-295.28) AC26(413.39,-295.28) AC27(452.76,-295.28) AC28(492.13,-295.28) AC29(531.5,-295.28) AC30(570.87,-295.28) AD1(-570.87,-334.65) AD2(-531.5,-334.65) AD3(-492.13,-334.65) AD4(-452.76,-334.65) AD5(-413.39,-334.65) AD6(-374.02,-334.65) AD7(-334.65,-334.65) AD8(-295.28,-334.65) AD9(-255.91,-334.65) AD10(-216.54,-334.65) AD11(-177.17,-334.65) AD12(-137.8,-334.65) AD13(-98.43,-334.65) AD14(-59.06,-334.65) AD15(-19.69,-334.65) AD16(19.69,-334.65) AD17(59.06,-334.65) AD18(98.43,-334.65) AD19(137.8,-334.65) AD20(177.17,-334.65) AD21(216.54,-334.65) AD22(255.91,-334.65) AD23(295.28,-334.65) AD24(334.65,-334.65) AD25(374.02,-334.65) AD26(413.39,-334.65) AD27(452.76,-334.65) AD28(492.13,-334.65) AD29(531.5,-334.65) AD30(570.87,-334.65) AE1(-570.87,-374.02) AE2(-531.5,-374.02) AE3(-492.13,-374.02) AE4(-452.76,-374.02) AE5(-413.39,-374.02) AE6(-374.02,-374.02) AE7(-334.65,-374.02) AE8(-295.28,-374.02) AE9(-255.91,-374.02) AE10(-216.54,-374.02) AE11(-177.17,-374.02) AE12(-137.8,-374.02) AE13(-98.43,-374.02) AE14(-59.06,-374.02) AE15(-19.69,-374.02) AE16(19.69,-374.02) AE17(59.06,-374.02) AE18(98.43,-374.02) AE19(137.8,-374.02) AE20(177.17,-374.02) AE21(216.54,-374.02) AE22(255.91,-374.02) AE23(295.28,-374.02) AE24(334.65,-374.02) AE25(374.02,-374.02) AE26(413.39,-374.02) AE27(452.76,-374.02) AE28(492.13,-374.02) AE29(531.5,-374.02) AE30(570.87,-374.02) AF1(-570.87,-413.39) AF2(-531.5,-413.39) AF3(-492.13,-413.39) AF4(-452.76,-413.39) AF5(-413.39,-413.39) AF6(-374.02,-413.39) AF7(-334.65,-413.39) AF8(-295.28,-413.39) AF9(-255.91,-413.39) AF10(-216.54,-413.39) AF11(-177.17,-413.39) AF12(-137.8,-413.39) AF13(-98.43,-413.39) AF14(-59.06,-413.39) AF15(-19.69,-413.39) AF16(19.69,-413.39) AF17(59.06,-413.39) AF18(98.43,-413.39) AF19(137.8,-413.39) AF20(177.17,-413.39) AF21(216.54,-413.39) AF22(255.91,-413.39) AF23(295.28,-413.39) AF24(334.65,-413.39) AF25(374.02,-413.39) AF26(413.39,-413.39) AF27(452.76,-413.39) AF28(492.13,-413.39) AF29(531.5,-413.39) AF30(570.87,-413.39) AG1(-570.87,-452.76) AG2(-531.5,-452.76) AG3(-492.13,-452.76) AG4(-452.76,-452.76) AG5(-413.39,-452.76) AG6(-374.02,-452.76) AG7(-334.65,-452.76) AG8(-295.28,-452.76) AG9(-255.91,-452.76) AG10(-216.54,-452.76) AG11(-177.17,-452.76) AG12(-137.8,-452.76) AG13(-98.43,-452.76) AG14(-59.06,-452.76) AG15(-19.69,-452.76) AG16(19.69,-452.76) AG17(59.06,-452.76) AG18(98.43,-452.76) AG19(137.8,-452.76) AG20(177.17,-452.76) AG21(216.54,-452.76) AG22(255.91,-452.76) AG23(295.28,-452.76) AG24(334.65,-452.76) AG25(374.02,-452.76) AG26(413.39,-452.76) AG27(452.76,-452.76) AG28(492.13,-452.76) AG29(531.5,-452.76) AG30(570.87,-452.76) AH1(-570.87,-492.13) AH2(-531.5,-492.13) AH3(-492.13,-492.13) AH4(-452.76,-492.13) AH5(-413.39,-492.13) AH6(-374.02,-492.13) AH7(-334.65,-492.13) AH8(-295.28,-492.13) AH9(-255.91,-492.13) AH10(-216.54,-492.13) AH11(-177.17,-492.13) AH12(-137.8,-492.13) AH13(-98.43,-492.13) AH14(-59.06,-492.13) AH15(-19.69,-492.13) AH16(19.69,-492.13) AH17(59.06,-492.13) AH18(98.43,-492.13) AH19(137.8,-492.13) AH20(177.17,-492.13) AH21(216.54,-492.13) AH22(255.91,-492.13) AH23(295.28,-492.13) AH24(334.65,-492.13) AH25(374.02,-492.13) AH26(413.39,-492.13) AH27(452.76,-492.13) AH28(492.13,-492.13) AH29(531.5,-492.13) AH30(570.87,-492.13) AJ1(-570.87,-531.5) AJ2(-531.5,-531.5) AJ3(-492.13,-531.5) AJ4(-452.76,-531.5) AJ5(-413.39,-531.5) AJ6(-374.02,-531.5) AJ7(-334.65,-531.5) AJ8(-295.28,-531.5) AJ9(-255.91,-531.5) AJ10(-216.54,-531.5) AJ11(-177.17,-531.5) AJ12(-137.8,-531.5) AJ13(-98.43,-531.5) AJ14(-59.06,-531.5) AJ15(-19.69,-531.5) AJ16(19.69,-531.5) AJ17(59.06,-531.5) AJ18(98.43,-531.5) AJ19(137.8,-531.5) AJ20(177.17,-531.5) AJ21(216.54,-531.5) AJ22(255.91,-531.5) AJ23(295.28,-531.5) AJ24(334.65,-531.5) AJ25(374.02,-531.5) AJ26(413.39,-531.5) AJ27(452.76,-531.5) AJ28(492.13,-531.5) AJ29(531.5,-531.5) AJ30(570.87,-531.5) AK2(-531.5,-570.87) AK3(-492.13,-570.87) AK4(-452.76,-570.87) AK5(-413.39,-570.87) AK6(-374.02,-570.87) AK7(-334.65,-570.87) AK8(-295.28,-570.87) AK9(-255.91,-570.87) AK10(-216.54,-570.87) AK11(-177.17,-570.87) AK12(-137.8,-570.87) AK13(-98.43,-570.87) AK14(-59.06,-570.87) AK15(-19.69,-570.87) AK16(19.69,-570.87) AK17(59.06,-570.87) AK18(98.43,-570.87) AK19(137.8,-570.87) AK20(177.17,-570.87) AK21(216.54,-570.87) AK22(255.91,-570.87) AK23(295.28,-570.87) AK24(334.65,-570.87) AK25(374.02,-570.87) AK26(413.39,-570.87) AK27(452.76,-570.87) AK28(492.13,-570.87) AK29(531.5,-570.87) B1(-570.87,531.5) B2(-531.5,531.5) B3(-492.13,531.5) B4(-452.76,531.5) B5(-413.39,531.5) B6(-374.02,531.5) B7(-334.65,531.5) B8(-295.28,531.5) B9(-255.91,531.5) B10(-216.54,531.5) B11(-177.17,531.5) B12(-137.8,531.5) B13(-98.43,531.5) B14(-59.06,531.5) B15(-19.69,531.5) B16(19.69,531.5) B17(59.06,531.5) B18(98.43,531.5) B19(137.8,531.5) B20(177.17,531.5) B21(216.54,531.5) B22(255.91,531.5) B23(295.28,531.5) B24(334.65,531.5) B25(374.02,531.5) B26(413.39,531.5) B27(452.76,531.5) B28(492.13,531.5) B29(531.5,531.5) B30(570.87,531.5) C1(-570.87,492.13) C2(-531.5,492.13) C3(-492.13,492.13) C4(-452.76,492.13) C5(-413.39,492.13) C6(-374.02,492.13) C7(-334.65,492.13) C8(-295.28,492.13) C9(-255.91,492.13) C10(-216.54,492.13) C11(-177.17,492.13) C12(-137.8,492.13) C13(-98.43,492.13) C14(-59.06,492.13) C15(-19.69,492.13) C16(19.69,492.13) C17(59.06,492.13) C18(98.43,492.13) C19(137.8,492.13) C20(177.17,492.13) C21(216.54,492.13) C22(255.91,492.13) C23(295.28,492.13) C24(334.65,492.13) C25(374.02,492.13) C26(413.39,492.13) C27(452.76,492.13) C28(492.13,492.13) C29(531.5,492.13) C30(570.87,492.13) D1(-570.87,452.76) D2(-531.5,452.76) D3(-492.13,452.76) D4(-452.76,452.76) D5(-413.39,452.76) D6(-374.02,452.76) D7(-334.65,452.76) D8(-295.28,452.76) D9(-255.91,452.76) D10(-216.54,452.76) D11(-177.17,452.76) D12(-137.8,452.76) D13(-98.43,452.76) D14(-59.06,452.76) D15(-19.69,452.76) D16(19.69,452.76) D17(59.06,452.76) D18(98.43,452.76) D19(137.8,452.76) D20(177.17,452.76) D21(216.54,452.76) D22(255.91,452.76) D23(295.28,452.76) D24(334.65,452.76) D25(374.02,452.76) D26(413.39,452.76) D27(452.76,452.76) D28(492.13,452.76) D29(531.5,452.76) D30(570.87,452.76) E1(-570.87,413.39) E2(-531.5,413.39) E3(-492.13,413.39) E4(-452.76,413.39) E5(-413.39,413.39) E6(-374.02,413.39) E7(-334.65,413.39) E8(-295.28,413.39) E9(-255.91,413.39) E10(-216.54,413.39) E11(-177.17,413.39) E12(-137.8,413.39) E13(-98.43,413.39) E14(-59.06,413.39) E15(-19.69,413.39) E16(19.69,413.39) E17(59.06,413.39) E18(98.43,413.39) E19(137.8,413.39) E20(177.17,413.39) E21(216.54,413.39) E22(255.91,413.39) E23(295.28,413.39) E24(334.65,413.39) E25(374.02,413.39) E26(413.39,413.39) E27(452.76,413.39) E28(492.13,413.39) E29(531.5,413.39) E30(570.87,413.39) F1(-570.87,374.02) F2(-531.5,374.02) F3(-492.13,374.02) F4(-452.76,374.02) F5(-413.39,374.02) F6(-374.02,374.02) F7(-334.65,374.02) F8(-295.28,374.02) F9(-255.91,374.02) F10(-216.54,374.02) F11(-177.17,374.02) F12(-137.8,374.02) F13(-98.43,374.02) F14(-59.06,374.02) F15(-19.69,374.02) F16(19.69,374.02) F17(59.06,374.02) F18(98.43,374.02) F19(137.8,374.02) F20(177.17,374.02) F21(216.54,374.02) F22(255.91,374.02) F23(295.28,374.02) F24(334.65,374.02) F25(374.02,374.02) F26(413.39,374.02) F27(452.76,374.02) F28(492.13,374.02) F29(531.5,374.02) F30(570.87,374.02) G1(-570.87,334.65) G2(-531.5,334.65) G3(-492.13,334.65) G4(-452.76,334.65) G5(-413.39,334.65) G6(-374.02,334.65) G7(-334.65,334.65) G8(-295.28,334.65) G9(-255.91,334.65) G10(-216.54,334.65) G11(-177.17,334.65) G12(-137.8,334.65) G13(-98.43,334.65) G14(-59.06,334.65) G15(-19.69,334.65) G16(19.69,334.65) G17(59.06,334.65) G18(98.43,334.65) G19(137.8,334.65) G20(177.17,334.65) G21(216.54,334.65) G22(255.91,334.65) G23(295.28,334.65) G24(334.65,334.65) G25(374.02,334.65) G26(413.39,334.65) G27(452.76,334.65) G28(492.13,334.65) G29(531.5,334.65) G30(570.87,334.65) H1(-570.87,295.28) H2(-531.5,295.28) H3(-492.13,295.28) H4(-452.76,295.28) H5(-413.39,295.28) H6(-374.02,295.28) H7(-334.65,295.28) H8(-295.28,295.28) H9(-255.91,295.28) H10(-216.54,295.28) H11(-177.17,295.28) H12(-137.8,295.28) H13(-98.43,295.28) H14(-59.06,295.28) H15(-19.69,295.28) H16(19.69,295.28) H17(59.06,295.28) H18(98.43,295.28) H19(137.8,295.28) H20(177.17,295.28) H21(216.54,295.28) H22(255.91,295.28) H23(295.28,295.28) H24(334.65,295.28) H25(374.02,295.28) H26(413.39,295.28) H27(452.76,295.28) H28(492.13,295.28) H29(531.5,295.28) H30(570.87,295.28) J1(-570.87,255.91) J2(-531.5,255.91) J3(-492.13,255.91) J4(-452.76,255.91) J5(-413.39,255.91) J6(-374.02,255.91) J7(-334.65,255.91) J8(-295.28,255.91) J9(-255.91,255.91) J10(-216.54,255.91) J11(-177.17,255.91) J12(-137.8,255.91) J13(-98.43,255.91) J14(-59.06,255.91) J15(-19.69,255.91) J16(19.69,255.91) J17(59.06,255.91) J18(98.43,255.91) J19(137.8,255.91) J20(177.17,255.91) J21(216.54,255.91) J22(255.91,255.91) J23(295.28,255.91) J24(334.65,255.91) J25(374.02,255.91) J26(413.39,255.91) J27(452.76,255.91) J28(492.13,255.91) J29(531.5,255.91) J30(570.87,255.91) K1(-570.87,216.54) K2(-531.5,216.54) K3(-492.13,216.54) K4(-452.76,216.54) K5(-413.39,216.54) K6(-374.02,216.54) K7(-334.65,216.54) K8(-295.28,216.54) K9(-255.91,216.54) K10(-216.54,216.54) K11(-177.17,216.54) K12(-137.8,216.54) K13(-98.43,216.54) K14(-59.06,216.54) K15(-19.69,216.54) K16(19.69,216.54) K17(59.06,216.54) K18(98.43,216.54) K19(137.8,216.54) K20(177.17,216.54) K21(216.54,216.54) K22(255.91,216.54) K23(295.28,216.54) K24(334.65,216.54) K25(374.02,216.54) K26(413.39,216.54) K27(452.76,216.54) K28(492.13,216.54) K29(531.5,216.54) K30(570.87,216.54) L1(-570.87,177.17) L2(-531.5,177.17) L3(-492.13,177.17) L4(-452.76,177.17) L5(-413.39,177.17) L6(-374.02,177.17) L7(-334.65,177.17) L8(-295.28,177.17) L9(-255.91,177.17) L10(-216.54,177.17) L11(-177.17,177.17) L12(-137.8,177.17) L13(-98.43,177.17) L14(-59.06,177.17) L15(-19.69,177.17) L16(19.69,177.17) L17(59.06,177.17) L18(98.43,177.17) L19(137.8,177.17) L20(177.17,177.17) L21(216.54,177.17) L22(255.91,177.17) L23(295.28,177.17) L24(334.65,177.17) L25(374.02,177.17) L26(413.39,177.17) L27(452.76,177.17) L28(492.13,177.17) L29(531.5,177.17) L30(570.87,177.17) M1(-570.87,137.8) M2(-531.5,137.8) M3(-492.13,137.8) M4(-452.76,137.8) M5(-413.39,137.8) M6(-374.02,137.8) M7(-334.65,137.8) M8(-295.28,137.8) M9(-255.91,137.8) M10(-216.54,137.8) M11(-177.17,137.8) M12(-137.8,137.8) M13(-98.43,137.8) M14(-59.06,137.8) M15(-19.69,137.8) M16(19.69,137.8) M17(59.06,137.8) M18(98.43,137.8) M19(137.8,137.8) M20(177.17,137.8) M21(216.54,137.8) M22(255.91,137.8) M23(295.28,137.8) M24(334.65,137.8) M25(374.02,137.8) M26(413.39,137.8) M27(452.76,137.8) M28(492.13,137.8) M29(531.5,137.8) M30(570.87,137.8) N1(-570.87,98.43) N2(-531.5,98.43) N3(-492.13,98.43) N4(-452.76,98.43) N5(-413.39,98.43) N6(-374.02,98.43) N7(-334.65,98.43) N8(-295.28,98.43) N9(-255.91,98.43) N10(-216.54,98.43) N11(-177.17,98.43) N12(-137.8,98.43) N13(-98.43,98.43) N14(-59.06,98.43) N15(-19.69,98.43) N16(19.69,98.43) N17(59.06,98.43) N18(98.43,98.43) N19(137.8,98.43) N20(177.17,98.43) N21(216.54,98.43) N22(255.91,98.43) N23(295.28,98.43) N24(334.65,98.43) N25(374.02,98.43) N26(413.39,98.43) N27(452.76,98.43) N28(492.13,98.43) N29(531.5,98.43) N30(570.87,98.43) P1(-570.87,59.06) P2(-531.5,59.06) P3(-492.13,59.06) P4(-452.76,59.06) P5(-413.39,59.06) P6(-374.02,59.06) P7(-334.65,59.06) P8(-295.28,59.06) P9(-255.91,59.06) P10(-216.54,59.06) P11(-177.17,59.06) P12(-137.8,59.06) P13(-98.43,59.06) P14(-59.06,59.06) P15(-19.69,59.06) P16(19.69,59.06) P17(59.06,59.06) P18(98.43,59.06) P19(137.8,59.06) P20(177.17,59.06) P21(216.54,59.06) P22(255.91,59.06) P23(295.28,59.06) P24(334.65,59.06) P25(374.02,59.06) P26(413.39,59.06) P27(452.76,59.06) P28(492.13,59.06) P29(531.5,59.06) P30(570.87,59.06) R1(-570.87,19.69) R2(-531.5,19.69) R3(-492.13,19.69) R4(-452.76,19.69) R5(-413.39,19.69) R6(-374.02,19.69) R7(-334.65,19.69) R8(-295.28,19.69) R9(-255.91,19.69) R10(-216.54,19.69) R11(-177.17,19.69) R12(-137.8,19.69) R13(-98.43,19.69) R14(-59.06,19.69) R15(-19.69,19.69) R16(19.69,19.69) R17(59.06,19.69) R18(98.43,19.69) R19(137.8,19.69) R20(177.17,19.69) R21(216.54,19.69) R22(255.91,19.69) R23(295.28,19.69) R24(334.65,19.69) R25(374.02,19.69) R26(413.39,19.69) R27(452.76,19.69) R28(492.13,19.69) R29(531.5,19.69) R30(570.87,19.69) T1(-570.87,-19.69) T2(-531.5,-19.69) T3(-492.13,-19.69) T4(-452.76,-19.69) T5(-413.39,-19.69) T6(-374.02,-19.69) T7(-334.65,-19.69) T8(-295.28,-19.69) T9(-255.91,-19.69) T10(-216.54,-19.69) T11(-177.17,-19.69) T12(-137.8,-19.69) T13(-98.43,-19.69) T14(-59.06,-19.69) T15(-19.69,-19.69) T16(19.69,-19.69) T17(59.06,-19.69) T18(98.43,-19.69) T19(137.8,-19.69) T20(177.17,-19.69) T21(216.54,-19.69) T22(255.91,-19.69) T23(295.28,-19.69) T24(334.65,-19.69) T25(374.02,-19.69) T26(413.39,-19.69) T27(452.76,-19.69) T28(492.13,-19.69) T29(531.5,-19.69) T30(570.87,-19.69) U1(-570.87,-59.06) U2(-531.5,-59.06) U3(-492.13,-59.06) U4(-452.76,-59.06) U5(-413.39,-59.06) U6(-374.02,-59.06) U7(-334.65,-59.06) U8(-295.28,-59.06) U9(-255.91,-59.06) U10(-216.54,-59.06) U11(-177.17,-59.06) U12(-137.8,-59.06) U13(-98.43,-59.06) U14(-59.06,-59.06) U15(-19.69,-59.06) U16(19.69,-59.06) U17(59.06,-59.06) U18(98.43,-59.06) U19(137.8,-59.06) U20(177.17,-59.06) U21(216.54,-59.06) U22(255.91,-59.06) U23(295.28,-59.06) U24(334.65,-59.06) U25(374.02,-59.06) U26(413.39,-59.06) U27(452.76,-59.06) U28(492.13,-59.06) U29(531.5,-59.06) U30(570.87,-59.06) V1(-570.87,-98.43) V2(-531.5,-98.43) V3(-492.13,-98.43) V4(-452.76,-98.43) V5(-413.39,-98.43) V6(-374.02,-98.43) V7(-334.65,-98.43) V8(-295.28,-98.43) V9(-255.91,-98.43) V10(-216.54,-98.43) V11(-177.17,-98.43) V12(-137.8,-98.43) V13(-98.43,-98.43) V14(-59.06,-98.43) V15(-19.69,-98.43) V16(19.69,-98.43) V17(59.06,-98.43) V18(98.43,-98.43) V19(137.8,-98.43) V20(177.17,-98.43) V21(216.54,-98.43) V22(255.91,-98.43) V23(295.28,-98.43) V24(334.65,-98.43) V25(374.02,-98.43) V26(413.39,-98.43) V27(452.76,-98.43) V28(492.13,-98.43) V29(531.5,-98.43) V30(570.87,-98.43) W1(-570.87,-137.8) W2(-531.5,-137.8) W3(-492.13,-137.8) W4(-452.76,-137.8) W5(-413.39,-137.8) W6(-374.02,-137.8) W7(-334.65,-137.8) W8(-295.28,-137.8) W9(-255.91,-137.8) W10(-216.54,-137.8) W11(-177.17,-137.8) W12(-137.8,-137.8) W13(-98.43,-137.8) W14(-59.06,-137.8) W15(-19.69,-137.8) W16(19.69,-137.8) W17(59.06,-137.8) W18(98.43,-137.8) W19(137.8,-137.8) W20(177.17,-137.8) W21(216.54,-137.8) W22(255.91,-137.8) W23(295.28,-137.8) W24(334.65,-137.8) W25(374.02,-137.8) W26(413.39,-137.8) W27(452.76,-137.8) W28(492.13,-137.8) W29(531.5,-137.8) W30(570.87,-137.8) Y1(-570.87,-177.17) Y2(-531.5,-177.17) Y3(-492.13,-177.17) Y4(-452.76,-177.17) Y5(-413.39,-177.17) Y6(-374.02,-177.17) Y7(-334.65,-177.17) Y8(-295.28,-177.17) Y9(-255.91,-177.17) Y10(-216.54,-177.17) Y11(-177.17,-177.17) Y12(-137.8,-177.17) Y13(-98.43,-177.17) Y14(-59.06,-177.17) Y15(-19.69,-177.17) Y16(19.69,-177.17) Y17(59.06,-177.17) Y18(98.43,-177.17) Y19(137.8,-177.17) Y20(177.17,-177.17) Y21(216.54,-177.17) Y22(255.91,-177.17) Y23(295.28,-177.17) Y24(334.65,-177.17) Y25(374.02,-177.17) Y26(413.39,-177.17) Y27(452.76,-177.17) Y28(492.13,-177.17) Y29(531.5,-177.17) Y30(570.87,-177.17)
Top Overlay:
  lines w8: -606.24,-570.87 -606.24,606.24 570.87,606.24 ccw(c604.57,604.57) 606.24,570.87 606.24,-570.87 ccw(c604.57,-604.57) 570.87,-606.24 -570.87,-606.24 ccw(c-604.57,-604.57) -606.24,-570.87
Top Solder:
  drawing of 896 lines, arcs and shapes, not listed

## PQFP208 [mm]
pads (208):
  rect 1.2x0.3 smd: 1(-14.95,12.75) 2(-14.95,12.25) 3(-14.95,11.75) 4(-14.95,11.25) 5(-14.95,10.75) 6(-14.95,10.25) 7(-14.95,9.75) 8(-14.95,9.25) 9(-14.95,8.75) 10(-14.95,8.25) 11(-14.95,7.75) 12(-14.95,7.25) 13(-14.95,6.75) 14(-14.95,6.25) 15(-14.95,5.75) 16(-14.95,5.25) 17(-14.95,4.75) 18(-14.95,4.25) 19(-14.95,3.75) 20(-14.95,3.25) 21(-14.95,2.75) 22(-14.95,2.25) 23(-14.95,1.75) 24(-14.95,1.25) 25(-14.95,0.75) 26(-14.95,0.25) 27(-14.95,-0.25) 28(-14.95,-0.75) 29(-14.95,-1.25) 30(-14.95,-1.75) 31(-14.95,-2.25) 32(-14.95,-2.75) 33(-14.95,-3.25) 34(-14.95,-3.75) 35(-14.95,-4.25) 36(-14.95,-4.75) 37(-14.95,-5.25) 38(-14.95,-5.75) 39(-14.95,-6.25) 40(-14.95,-6.75) 41(-14.95,-7.25) 42(-14.95,-7.75) 43(-14.95,-8.25) 44(-14.95,-8.75) 45(-14.95,-9.25) 46(-14.95,-9.75) 47(-14.95,-10.25) 48(-14.95,-10.75) 49(-14.95,-11.25) 50(-14.95,-11.75) 51(-14.95,-12.25) 52(-14.95,-12.75) 105(14.95,-12.75) 106(14.95,-12.25) 107(14.95,-11.75) 108(14.95,-11.25) 109(14.95,-10.75) 110(14.95,-10.25) 111(14.95,-9.75) 112(14.95,-9.25) 113(14.95,-8.75) 114(14.95,-8.25) 115(14.95,-7.75) 116(14.95,-7.25) 117(14.95,-6.75) 118(14.95,-6.25) 119(14.95,-5.75) 120(14.95,-5.25) 121(14.95,-4.75) 122(14.95,-4.25) 123(14.95,-3.75) 124(14.95,-3.25) 125(14.95,-2.75) 126(14.95,-2.25) 127(14.95,-1.75) 128(14.95,-1.25) 129(14.95,-0.75) 130(14.95,-0.25) 131(14.95,0.25) 132(14.95,0.75) 133(14.95,1.25) 134(14.95,1.75) 135(14.95,2.25) 136(14.95,2.75) 137(14.95,3.25) 138(14.95,3.75) 139(14.95,4.25) 140(14.95,4.75) 141(14.95,5.25) 142(14.95,5.75) 143(14.95,6.25) 144(14.95,6.75) 145(14.95,7.25) 146(14.95,7.75) 147(14.95,8.25) 148(14.95,8.75) 149(14.95,9.25) 150(14.95,9.75) 151(14.95,10.25) 152(14.95,10.75) 153(14.95,11.25) 154(14.95,11.75) 155(14.95,12.25) 156(14.95,12.75)
  rect 0.3x1.2 smd: 53(-12.75,-14.95) 54(-12.25,-14.95) 55(-11.75,-14.95) 56(-11.25,-14.95) 57(-10.75,-14.95) 58(-10.25,-14.95) 59(-9.75,-14.95) 60(-9.25,-14.95) 61(-8.75,-14.95) 62(-8.25,-14.95) 63(-7.75,-14.95) 64(-7.25,-14.95) 65(-6.75,-14.95) 66(-6.25,-14.95) 67(-5.75,-14.95) 68(-5.25,-14.95) 69(-4.75,-14.95) 70(-4.25,-14.95) 71(-3.75,-14.95) 72(-3.25,-14.95) 73(-2.75,-14.95) 74(-2.25,-14.95) 75(-1.75,-14.95) 76(-1.25,-14.95) 77(-0.75,-14.95) 78(-0.25,-14.95) 79(0.25,-14.95) 80(0.75,-14.95) 81(1.25,-14.95) 82(1.75,-14.95) 83(2.25,-14.95) 84(2.75,-14.95) 85(3.25,-14.95) 86(3.75,-14.95) 87(4.25,-14.95) 88(4.75,-14.95) 89(5.25,-14.95) 90(5.75,-14.95) 91(6.25,-14.95) 92(6.75,-14.95) 93(7.25,-14.95) 94(7.75,-14.95) 95(8.25,-14.95) 96(8.75,-14.95) 97(9.25,-14.95) 98(9.75,-14.95) 99(10.25,-14.95) 100(10.75,-14.95) 101(11.25,-14.95) 102(11.75,-14.95) 103(12.25,-14.95) 104(12.75,-14.95) 157(12.75,14.95) 158(12.25,14.95) 159(11.75,14.95) 160(11.25,14.95) 161(10.75,14.95) 162(10.25,14.95) 163(9.75,14.95) 164(9.25,14.95) 165(8.75,14.95) 166(8.25,14.95) 167(7.75,14.95) 168(7.25,14.95) 169(6.75,14.95) 170(6.25,14.95) 171(5.75,14.95) 172(5.25,14.95) 173(4.75,14.95) 174(4.25,14.95) 175(3.75,14.95) 176(3.25,14.95) 177(2.75,14.95) 178(2.25,14.95) 179(1.75,14.95) 180(1.25,14.95) 181(0.75,14.95) 182(0.25,14.95) 183(-0.25,14.95) 184(-0.75,14.95) 185(-1.25,14.95) 186(-1.75,14.95) 187(-2.25,14.95) 188(-2.75,14.95) 189(-3.25,14.95) 190(-3.75,14.95) 191(-4.25,14.95) 192(-4.75,14.95) 193(-5.25,14.95) 194(-5.75,14.95) 195(-6.25,14.95) 196(-6.75,14.95) 197(-7.25,14.95) 198(-7.75,14.95) 199(-8.25,14.95) 200(-8.75,14.95) 201(-9.25,14.95) 202(-9.75,14.95) 203(-10.25,14.95) 204(-10.75,14.95) 205(-11.25,14.95) 206(-11.75,14.95) 207(-12.25,14.95) 208(-12.75,14.95)
Top Overlay:
  lines w0.203: -13.898,-13.898 13.898,-13.898 13.898,13.898 -13.425,13.898 -13.898,13.425 -13.898,-13.898
Top Solder:
  drawing of 208 lines, arcs and shapes, not listed
Mechanical 16:
  drawing of 208 lines, arcs and shapes, not listed

## PQFP240 [mm]
pads (240):
  rect 1x0.4 smd: 1(-17.05,14.75) 2(-17.05,14.25) 3(-17.05,13.75) 4(-17.05,13.25) 5(-17.05,12.75) 6(-17.05,12.25) 7(-17.05,11.75) 8(-17.05,11.25) 9(-17.05,10.75) 10(-17.05,10.25) 11(-17.05,9.75) 12(-17.05,9.25) 13(-17.05,8.75) 14(-17.05,8.25) 15(-17.05,7.75) 16(-17.05,7.25) 17(-17.05,6.75) 18(-17.05,6.25) 19(-17.05,5.75) 20(-17.05,5.25) 21(-17.05,4.75) 22(-17.05,4.25) 23(-17.05,3.75) 24(-17.05,3.25) 25(-17.05,2.75) 26(-17.05,2.25) 27(-17.05,1.75) 28(-17.05,1.25) 29(-17.05,0.75) 30(-17.05,0.25) 31(-17.05,-0.25) 32(-17.05,-0.75) 33(-17.05,-1.25) 34(-17.05,-1.75) 35(-17.05,-2.25) 36(-17.05,-2.75) 37(-17.05,-3.25) 38(-17.05,-3.75) 39(-17.05,-4.25) 40(-17.05,-4.75) 41(-17.05,-5.25) 42(-17.05,-5.75) 43(-17.05,-6.25) 44(-17.05,-6.75) 45(-17.05,-7.25) 46(-17.05,-7.75) 47(-17.05,-8.25) 48(-17.05,-8.75) 49(-17.05,-9.25) 50(-17.05,-9.75) 51(-17.05,-10.25) 52(-17.05,-10.75) 53(-17.05,-11.25) 54(-17.05,-11.75) 55(-17.05,-12.25) 56(-17.05,-12.75) 57(-17.05,-13.25) 58(-17.05,-13.75) 59(-17.05,-14.25) 60(-17.05,-14.75) 121(17.05,-14.75) 122(17.05,-14.25) 123(17.05,-13.75) 124(17.05,-13.25) 125(17.05,-12.75) 126(17.05,-12.25) 127(17.05,-11.75) 128(17.05,-11.25) 129(17.05,-10.75) 130(17.05,-10.25) 131(17.05,-9.75) 132(17.05,-9.25) 133(17.05,-8.75) 134(17.05,-8.25) 135(17.05,-7.75) 136(17.05,-7.25) 137(17.05,-6.75) 138(17.05,-6.25) 139(17.05,-5.75) 140(17.05,-5.25) 141(17.05,-4.75) 142(17.05,-4.25) 143(17.05,-3.75) 144(17.05,-3.25) 145(17.05,-2.75) 146(17.05,-2.25) 147(17.05,-1.75) 148(17.05,-1.25) 149(17.05,-0.75) 150(17.05,-0.25) 151(17.05,0.25) 152(17.05,0.75) 153(17.05,1.25) 154(17.05,1.75) 155(17.05,2.25) 156(17.05,2.75) 157(17.05,3.25) 158(17.05,3.75) 159(17.05,4.25) 160(17.05,4.75) 161(17.05,5.25) 162(17.05,5.75) 163(17.05,6.25) 164(17.05,6.75) 165(17.05,7.25) 166(17.05,7.75) 167(17.05,8.25) 168(17.05,8.75) 169(17.05,9.25) 170(17.05,9.75) 171(17.05,10.25) 172(17.05,10.75) 173(17.05,11.25) 174(17.05,11.75) 175(17.05,12.25) 176(17.05,12.75) 177(17.05,13.25) 178(17.05,13.75) 179(17.05,14.25) 180(17.05,14.75)
  rect 0.4x1 smd: 61(-14.75,-17.05) 62(-14.25,-17.05) 63(-13.75,-17.05) 64(-13.25,-17.05) 65(-12.75,-17.05) 66(-12.25,-17.05) 67(-11.75,-17.05) 68(-11.25,-17.05) 69(-10.75,-17.05) 70(-10.25,-17.05) 71(-9.75,-17.05) 72(-9.25,-17.05) 73(-8.75,-17.05) 74(-8.25,-17.05) 75(-7.75,-17.05) 76(-7.25,-17.05) 77(-6.75,-17.05) 78(-6.25,-17.05) 79(-5.75,-17.05) 80(-5.25,-17.05) 81(-4.75,-17.05) 82(-4.25,-17.05) 83(-3.75,-17.05) 84(-3.25,-17.05) 85(-2.75,-17.05) 86(-2.25,-17.05) 87(-1.75,-17.05) 88(-1.25,-17.05) 89(-0.75,-17.05) 90(-0.25,-17.05) 91(0.25,-17.05) 92(0.75,-17.05) 93(1.25,-17.05) 94(1.75,-17.05) 95(2.25,-17.05) 96(2.75,-17.05) 97(3.25,-17.05) 98(3.75,-17.05) 99(4.25,-17.05) 100(4.75,-17.05) 101(5.25,-17.05) 102(5.75,-17.05) 103(6.25,-17.05) 104(6.75,-17.05) 105(7.25,-17.05) 106(7.75,-17.05) 107(8.25,-17.05) 108(8.75,-17.05) 109(9.25,-17.05) 110(9.75,-17.05) 111(10.25,-17.05) 112(10.75,-17.05) 113(11.25,-17.05) 114(11.75,-17.05) 115(12.25,-17.05) 116(12.75,-17.05) 117(13.25,-17.05) 118(13.75,-17.05) 119(14.25,-17.05) 120(14.75,-17.05) 181(14.75,17.05) 182(14.25,17.05) 183(13.75,17.05) 184(13.25,17.05) 185(12.75,17.05) 186(12.25,17.05) 187(11.75,17.05) 188(11.25,17.05) 189(10.75,17.05) 190(10.25,17.05) 191(9.75,17.05) 192(9.25,17.05) 193(8.75,17.05) 194(8.25,17.05) 195(7.75,17.05) 196(7.25,17.05) 197(6.75,17.05) 198(6.25,17.05) 199(5.75,17.05) 200(5.25,17.05) 201(4.75,17.05) 202(4.25,17.05) 203(3.75,17.05) 204(3.25,17.05) 205(2.75,17.05) 206(2.25,17.05) 207(1.75,17.05) 208(1.25,17.05) 209(0.75,17.05) 210(0.25,17.05) 211(-0.25,17.05) 212(-0.75,17.05) 213(-1.25,17.05) 214(-1.75,17.05) 215(-2.25,17.05) 216(-2.75,17.05) 217(-3.25,17.05) 218(-3.75,17.05) 219(-4.25,17.05) 220(-4.75,17.05) 221(-5.25,17.05) 222(-5.75,17.05) 223(-6.25,17.05) 224(-6.75,17.05) 225(-7.25,17.05) 226(-7.75,17.05) 227(-8.25,17.05) 228(-8.75,17.05) 229(-9.25,17.05) 230(-9.75,17.05) 231(-10.25,17.05) 232(-10.75,17.05) 233(-11.25,17.05) 234(-11.75,17.05) 235(-12.25,17.05) 236(-12.75,17.05) 237(-13.25,17.05) 238(-13.75,17.05) 239(-14.25,17.05) 240(-14.75,17.05)
Top Overlay:
  circle w0.203: c-14,14.25 r0.5
  lines w0.203: -15.898,-15.7 -15.898,15.7 -15.7,15.898 15.7,15.898 15.898,15.7 15.898,-15.7 15.7,-15.898 -15.7,-15.898 -15.898,-15.7
Top Solder:
  drawing of 240 lines, arcs and shapes, not listed
Mechanical 16:
  drawing of 240 lines, arcs and shapes, not listed